# Altium footprint library FUFO.PcbLib: 21 footprints (part 1 of 2)
Each footprint in its own frame and in the unit in brackets; x right, y up, seen from the top. Pads: shape width x height; smd on the part's side, far side on the other; paste and mask are expansions set on the pad; w line width, h text height; cw(c..) or ccw(c..) is an arc to the next point about the centre after c.
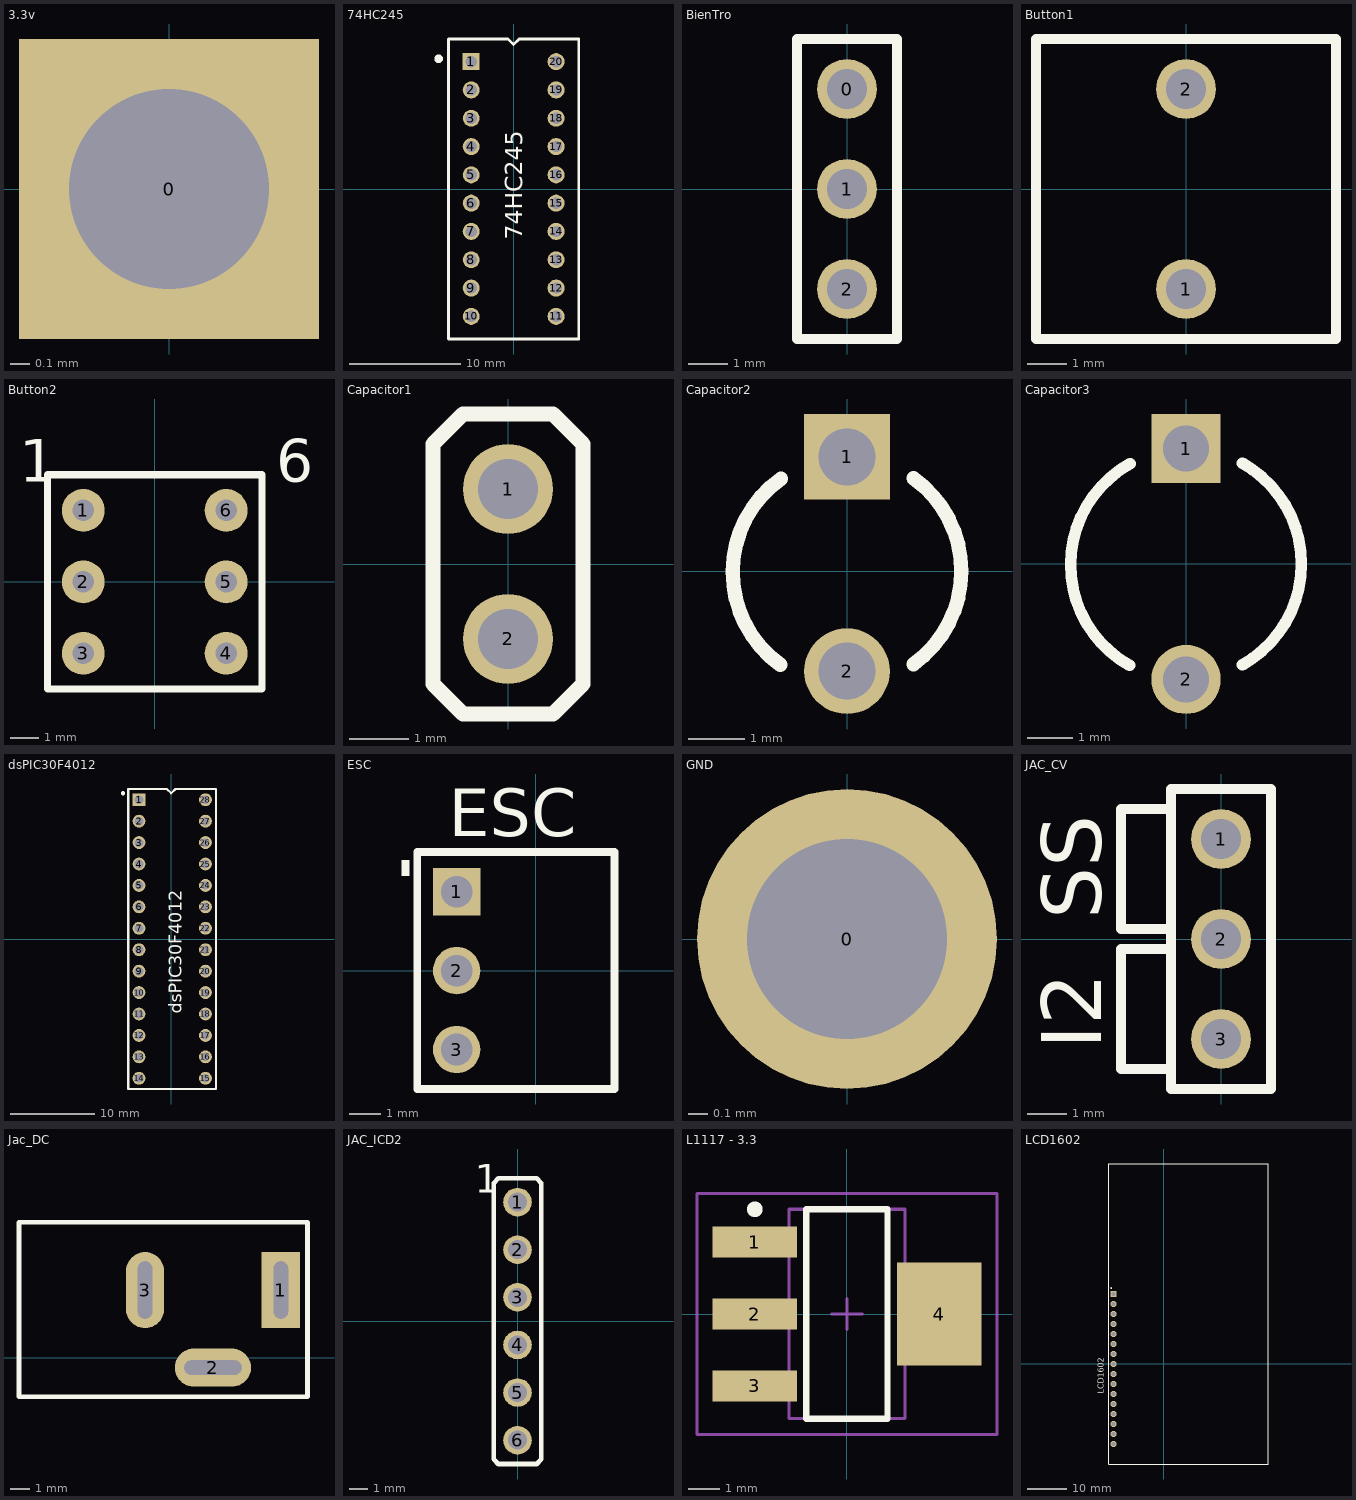
[diagram p0: the footprints below, top view; thin cyan lines are the x and y axes]

## 3.3v [mil]
pads (1):
  rect 60x60 hole 40: 0(0,0)

## 74HC245 [mil]
pads (20):
  rect 60x60 hole 40: 1(-150,450)
  round 60 hole 40: 2(-150,350) 3(-150,250) 4(-150,150) 5(-150,50) 6(-150,-50) 7(-150,-150) 8(-150,-250) 9(-150,-350) 10(-150,-450) 11(150,-450) 12(150,-350) 13(150,-250) 14(150,-150) 15(150,-50) 16(150,50) 17(150,150) 18(150,250) 19(150,350) 20(150,450)
Top Overlay:
  circle w20: c-265,460 r5
  lines w10: -230,-530 230,-530 230,530 20,530 0,510 -20,530 -230,530 -230,-530
  text "74HC245" at 30,-180 h60

## BienTro [mil]
pads (3):
  round 60 hole 40: 0(0,100) 1(0,0) 2(0,-100)
Top Overlay:
  lines w10: -50,-150 -50,150 50,150 50,-150 -50,-150

## Button1 [mil]
pads (2):
  round 60 hole 40: 1(0,-100) 2(0,100)
Top Overlay:
  lines w10: -150,-150 150,-150 150,150 -150,150 -150,-150

## Button2 [mil]
pads (6):
  round 60 hole 30: 1(-100,100) 2(-100,0) 3(-100,-100) 4(100,-100) 5(100,0) 6(100,100)
Top Overlay:
  lines w10: -150,-150 150,-150 150,150 -150,150 -150,-150
  text "1" at -190,140 h60
  text "6" at 170,140 h60

## Capacitor1 [mil]
pads (2):
  round 60 hole 40: 1(0,50) 2(0,-50)
Top Overlay:
  lines w10: -50,-80 -30,-100 0,-100 30,-100 50,-80 50,80 30,100 0,100 -30,100 -50,80 -50,-80

## Capacitor2 [mil]
pads (2):
  rect 60x60 hole 40: 1(0,80)
  round 60 hole 40: 2(0,-70)
Top Overlay:
  lines w10: -46.8,-65.55 cw(c-0.08,-0.62) -46.26,64.71 ; 46.5,-65.1 ccw(c0,0) 46.5,65.1

## Capacitor3 [mil]
pads (2):
  rect 60x60 hole 40: 1(0,100)
  round 60 hole 40: 2(0,-100)
Top Overlay:
  lines w10: -48.84,-87.92 cw(c-0.08,-0.62) -48.33,86.97 ; 48.56,-87.42 ccw(c0,0) 48.56,87.42

## dsPIC30F4012 [mil]
height 150
pads (28):
  rect 60x60 hole 40: 1(-150,650)
  round 60 hole 40: 2(-150,550) 3(-150,450) 4(-150,350) 5(-150,250) 6(-150,150) 7(-150,50) 8(-150,-50) 9(-150,-150) 10(-150,-250) 11(-150,-350) 12(-150,-450) 13(-150,-550) 14(-150,-650) 15(160,-650) 16(160,-550) 17(160,-450) 18(160,-350) 19(160,-250) 20(160,-150) 21(160,-50) 22(160,50) 23(160,150) 24(160,250) 25(160,350) 26(160,450) 27(160,550) 28(160,650)
Top Overlay:
  circle w10: c-225,680 r5
  lines w10: -31.25,700 -200,700 -200,600 -200,300 -200,-700 210,-700 210,600 210,700 110,700 20,700 0,680 -20,700 -30,700
  text "dsPIC30F4012" at 50,-350 h60

## ESC [mil]
pads (3):
  rect 60x60 hole 40: 1(-100,100)
  round 60 hole 40: 2(-100,0) 3(-100,-100)
Top Overlay:
  rectangle: -170,120 -160,140
  lines w10: -150,-150 -150,150 100,150 100,-150 -150,-150
  text "ESC" at -110,170 h60

## GND [mil]
pads (1):
  round 60 hole 40: 0(0,0)

## JAC_CV [mil]
pads (3):
  round 60 hole 40: 1(0,100) 2(0,0) 3(0,-100)
Top Overlay:
  lines w10: -50,-130 -100,-130 -100,-10 -50,-10 ; -50,10 -100,10 -100,130 -50,130 ; -50,-150 50,-150 50,150 -50,150 -50,-150
  text "SS" at -120,20 h60
  text "I2" at -120,-110 h60

## Jac_DC [mil]
height 393.7
pads (3):
  rect 78.74x157.48 hole 30 slot 118.11 at 90 deg: 1(735,140)
  oval 157.48x78.74 hole 30 slot 118.11 at 0 deg: 2(595,-20)
  oval 78.74x157.48 hole 30 slot 118.11 at 90 deg: 3(455,140)
Top Overlay:
  lines w10: 195,-80 790,-80 790,280 195,280 195,-80

## JAC_ICD2 [mil]
pads (6):
  round 60 hole 40: 1(0,250) 2(0,150) 3(0,50) 4(0,-50) 5(0,-150) 6(0,-250)
Top Overlay:
  lines w10: -50,-290 -50,290 -40,300 40,300 50,290 50,-290 40,-300 -40,-300 -50,-290
  text "1" at -90,270 h60

## L1117 - 3.3 [mm] "SOT223, 4-Leads, Body 6.5x3.5mm, Pitch 2.3mm, Lead Span 7mm, IPC Low Density"
height 1.7
pads (4):
  rect 2.7x1 smd: 1(-2.95,2.3) 2(-2.95,0) 3(-2.95,-2.3)
  rect 2.7x3.3 smd: 4(2.95,0)
Top Overlay:
  circle w0.25: c-2.95,3.35 r0.125
  lines w0.2: -1.3,-3.35 -1.3,3.35 1.3,3.35 1.3,-3.35 -1.3,-3.35
Mechanical 13:
  lines w0.1: -1.85,-3.35 -1.85,3.35 1.85,3.35 1.85,-3.35 -1.85,-3.35
Mechanical 15:
  lines w0.1: -0.5,0 0.5,0 ; 0,-0.5 0,0.5 ; -4.8,-3.85 -4.8,3.85 4.8,3.85 4.8,-3.85 -4.8,-3.85
3D body: height 1.7, standoff 0, extent -1.85,-3.35 1.85,3.35

## LCD1602 [mil]
pads (16):
  rect 60x60 hole 40: 1(-500,700)
  round 60 hole 40: 2(-500,600) 3(-500,500) 4(-500,400) 5(-500,300) 6(-500,200) 7(-500,100) 8(-500,0) 9(-500,-100) 10(-500,-200) 11(-500,-300) 12(-500,-400) 13(-500,-500) 14(-500,-600) 15(-500,-700) 16(-500,-800)
Top Overlay:
  circle w10: c-525,760 r5
  lines w10: -550,-1000 -550,2000 1050,2000 1050,-1000 -550,-1000
  text "LCD1602" at -600,-300 h60